# Altium schematic symbol library GarageOpener_1X.SchLib: 3 symbols
Pins are listed as number, name and electrical type; pins without a type are passive.

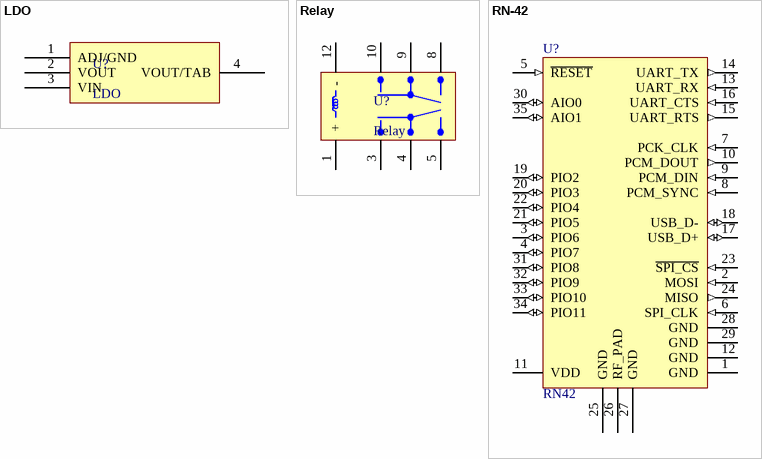
[diagram p0: symbols LDO to RN-42]

## LDO
designator U?
IC REG LDO 3.3V 1A SOT-223-4; PartNo: NCP1117LPST33T3G
pins: 1 ADJ/GND, 2 VOUT, 3 VIN, 4 VOUT/TAB

## Relay
designator U?
pins: 1 +, 3, 4, 5, 8, 9, 10, 12 -

## RN-42
designator U?, comment RN42
Roving Networks Bluetooth Serial Module; HelpURL: http://www.sparkfun.com/datasheets/Wireless/Bluetooth/rn-42-ds.pdf
footprint RN-42 (Roving Networks RN-42 module footprint)
pins: 1 GND (power), 2 MOSI (in), 3 PIO6 (io), 4 PIO7 (io), 5 ~{RESET} (in), 6 SPI_CLK (in), 7 PCK_CLK (in), 8 PCM_SYNC (in), 9 PCM_DIN (in), 10 PCM_DOUT (out), 11 VDD (power), 12 GND (power), 13 UART_RX (in), 14 UART_TX (out), 15 UART_RTS (out), 16 UART_CTS (in), 17 USB_D+ (io), 18 USB_D- (io), 19 PIO2 (io), 20 PIO3 (io), 21 PIO5 (io), 22 PIO4 (io), 23 ~{SPI_CS} (in), 24 MISO (out), 25 GND, 26 RF_PAD, 27 GND, 28 GND (power), 29 GND (power), 30 AIO0 (io), 31 PIO8 (io), 32 PIO9 (io), 33 PIO10 (io), 34 PIO11 (io), 35 AIO1 (io)